# EAGLE library part UJ2-MIBH2-4-SMT-TR (library tew-connectors)
USB Connectors USB 2.0 micro B jack 5 pin Horizontal SMT Datasheet: https://www.mouser.com/datasheet/2/670/uj2-mibh2-4-smt-1313423.pdf
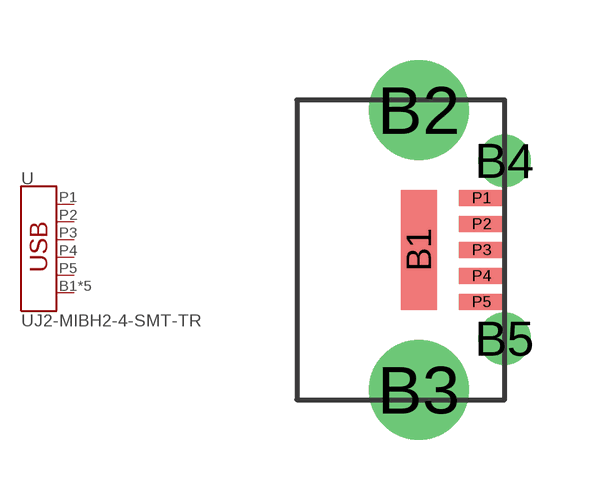
[diagram p0: symbol with the pads of UJ2-MIBH2-4-SMT-TR; footprint UJ2-MIBH2-4-SMT-TR]

Designator prefix -

## UJ2-MIBH2-4-SMT-TR (MFR: CUI; PART_NO: UJ2-MIBH2-4-SMT-TR)  [UJ2-MIBH2-4-SMT-TR]
B1  SHIELD
B2  SHIELD
B3  SHIELD
B4  SHIELD
B5  SHIELD
P1  VBUS  pwr
P2  D-
P3  D+
P4  ID
P5  GND  pwr

## Footprint UJ2-MIBH2-4-SMT-TR (pad centres in mm)
USB Connectors USB 2.0 micro B jack 5 pin Horizontal SMT
smd 0.9 x 3: B1 -2.15,0
drill 1.4 pad 2.5: B2 -2.15,3.5; B3 -2.15,-3.5
drill 0.8 pad 1.05: B4 0,2.225; B5 0,-2.225
smd 1.15 x 0.4: P1 -0.575,1.3; P2 -0.575,0.65; P3 -0.575,0; P4 -0.575,-0.65; P5 -0.575,-1.3